# Altium footprint library TO_package.PcbLib: 10 footprints
Each footprint in its own frame and in the unit in brackets; x right, y up, seen from the top. Pads: shape width x height; smd on the part's side, far side on the other; paste and mask are expansions set on the pad; w line width, h text height; cw(c..) or ccw(c..) is an arc to the next point about the centre after c.
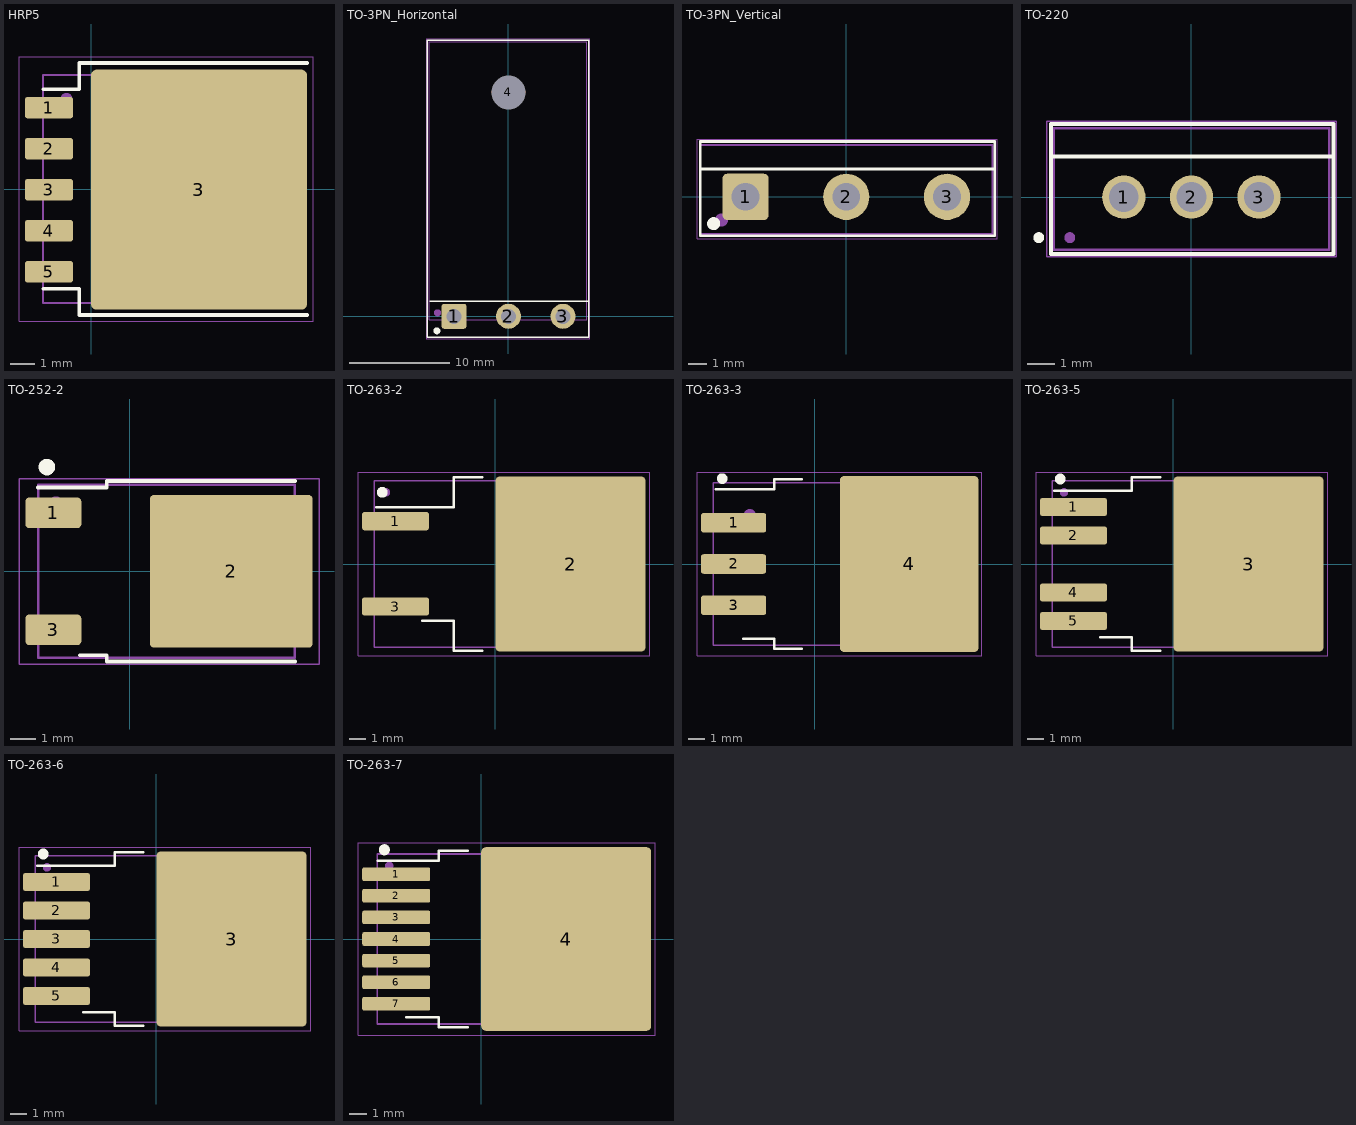
[diagram p0: the footprints below, top view; thin cyan lines are the x and y axes]

## HRP5 [mm]
pads (6):
  rrect25% 2x0.9 smd: 1(-1.751,3.391) 2(-1.751,1.681) 3(-1.751,-0.029) 4(-1.751,-1.739) 5(-1.751,-3.449)
  rrect5% 9x10 smd: 3(4.499,-0.029)
Top Overlay:
  lines w0.15: -1.986,-4.158 -0.486,-4.158 -0.486,-5.25 9,-5.25 ; -1.986,4.158 -0.486,4.158 -0.486,5.25 9,5.25
Top Assembly:
  circle w0.25: c-1.025,3.75 r0.125
  lines w0.1: -2,-4.75 8.5,-4.75 8.5,4.75 -2,4.75 -2,-4.75
  text ".Designator" at -4.998,-0.333 h1
Top Courtyard (Mech15):
  lines w0.05: -3,-5.5 9.25,-5.5 9.25,5.5 -3,5.5 -3,-5.5
3D body "Компонент 1.STEP": height 1.91, standoff 0, extent -2.023,-4.797 8.517,4.797

## TO-3PN_Horizontal [mm]
pads (4):
  rrect20% 2.5x2.5 hole 1.5: 1(-5.45,0)
  round 2.5 hole 1.5: 2(0,0) 3(5.45,0)
  oval 3.4x1.524 hole 3.4 unplated: 4(0,22.4)
Top Overlay:
  lines w0.15: -7.875,1.5 8.025,1.5 ; -8.15,-2.1 8.025,-2.1 8.025,27.6 -8.15,27.6 -8.15,-2.1
  lines w0.5: -7.075,-1.45 cw(c-7.175,-1.45) -7.075,-1.441
Top Assembly:
  circle w0.5: c-7.1,0.35 r0.1
  lines w0.1: -7.95,-0.35 7.85,-0.35 7.85,27.45 -7.95,27.45 -7.95,-0.35
  text ".Designator" at -4.998,-0.333 h1
Top Courtyard (Mech15):
  lines w0.05: -8.25,-2.275 8.15,-2.275 8.15,27.75 -8.25,27.75 -8.25,-2.275
3D body "User Library-TO-3PN_HOR_TOP.step": height 4.9, standoff -3.4, extent -7.9,-0.425 7.9,27.4

## TO-3PN_Vertical [mm]
pads (3):
  rrect20% 2.5x2.5 hole 1.5: 1(-5.45,0)
  round 2.5 hole 1.5: 2(0,0) 3(5.45,0)
Top Overlay:
  lines w0.15: -7.875,1.5 8.025,1.5 ; -7.9,-2.1 8.025,-2.1 8.025,3 -7.9,3 -7.9,-2.1
  lines w0.5: -7.075,-1.45 cw(c-7.175,-1.45) -7.075,-1.441
Top Assembly:
  circle w0.5: c-6.75,-1.25 r0.1
  lines w0.1: -7.9,-2 7.9,-2 7.9,2.8 -7.9,2.8 -7.9,-2
  text ".Designator" at -4.998,-0.333 h1
Top Courtyard (Mech15):
  lines w0.05: -8.075,-2.275 8.15,-2.275 8.15,3.125 -8.075,3.125 -8.075,-2.275
3D body "User Library-TO-3PN_2.STEP": height 23.9, standoff -9.5, extent -7.9,-2 7.9,2.801

## TO-220 [mm]
pads (3):
  round 1.6 hole 1.1: 1(-2.5,0) 2(0,0) 3(2.5,0)
Top Overlay:
  circle w0.2: c-5.65,-1.5 r0.1
  lines w0.15: -5.2,1.5 5.25,1.5 ; -5.2,-2.1 -5.2,2.7 5.25,2.7 5.25,-2.1 -5.2,-2.1
Top Assembly:
  circle w0.2: c-4.5,-1.5 r0.1
  lines w0.1: -5.1,-1.95 5.1,-1.95 5.1,2.55 -5.1,2.55 -5.1,-1.95
  text ".Designator" at -4.998,-0.333 h1
Top Courtyard (Mech15):
  lines w0.05: -5.35,-2.2 -5.35,2.8 5.35,2.8 5.35,-2.2 -5.35,-2.2
3D body "regulator TO-220.step": height 22.5, standoff -6.5, extent -5.1,-1.851 5.1,2.65

## TO-252-2 [mm] "DPAK"
height 2.4
pads (3):
  rrect25% 2.2x1.2 smd: 1(-3,2.3) 3(-3,-2.3)
  rrect5% 6.4x6 smd: 2(4,0)
Top Overlay:
  circle w0.4: c-3.25,4.1 r0.125
  lines w0.15: -3.6,3.3 -0.9,3.3 -0.9,3.55 6.5,3.55 ; -1.95,-3.3 -0.9,-3.3 -0.9,-3.55 6.5,-3.55
Top Assembly:
  circle w0.25: c-2.899,2.7 r0.125
  lines w0.1: -3.6,-3.4 -3.6,3.4 6.502,3.4 6.502,-3.4 -3.6,-3.4
  text ".Designator" at -4.998,-0.333 h1
Top Courtyard (Mech15):
  lines w0.05: -4.35,-3.65 -4.35,3.65 7.45,3.65 7.45,-3.65 -4.35,-3.65
3D body "User Library-DPAK_TO-252AA.step": height 2.37, standoff -0.03, extent -3.598,-3.367 6.502,3.367

## TO-263-2 [mm] "D2PAK"
height 4.65
pads (3):
  rrect25% 4x1.1 smd: 1(-6,2.57) 3(-6,-2.55)
  rrect5% 9x10.5 smd: 2(4.5,0)
Top Overlay:
  circle w0.4: c-6.8,4.3 r0.125
  lines w0.15: -7.15,3.4 -2.5,3.4 -2.5,5.2 -0.8,5.2 ; -4.4,-3.4 -2.5,-3.4 -2.5,-5.2 -0.8,-5.2
Top Assembly:
  circle w0.25: c-6.575,4.3 r0.125
  lines w0.1: -7.276,-5 8.394,-5 8.394,5 -7.276,5 -7.276,-5
  text ".Designator" at -4.998,-0.333 h1
Top Courtyard (Mech15):
  lines w0.05: -8.25,-5.5 -8.25,5.5 9.25,5.5 9.25,-5.5 -8.25,-5.5
3D body "TO263-3S.STEP": height 4.78, standoff -0.02, extent -7.276,-5 8.394,5

## TO-263-3 [mm] "TO263-7 (D2Pak, 7-Pads)"
height 4.6
pads (4):
  rrect25% 4x1.2 smd: 1(-5,2.54) 2(-5,0) 3(-5,-2.54)
  rrect5% 8.5x10.8 smd: 4(5.8,0)
Top Overlay:
  circle w0.4: c-5.7,5.25 r0.125
  lines w0.15: -6.1,4.6 -2.5,4.6 -2.5,5.2 -0.8,5.2 ; -4.4,-4.6 -2.5,-4.6 -2.5,-5.2 -0.8,-5.2
Top Assembly:
  circle w0.75: c-4,3 r0.001
  lines w0.1: -6.25,-5 9.447,-5 9.447,5 -6.25,5 -6.25,-5
  text ".Designator" at -4.998,-0.333 h1
Top Courtyard (Mech15):
  lines w0.05: -7.25,-5.65 10.25,-5.65 10.25,5.65 -7.25,5.65 -7.25,-5.65
3D body "User Library-TO263-3.STEP": height 4.83, standoff 0.03, extent -6.24,-5 9.43,5

## TO-263-5 [mm]
height 4.65
pads (5):
  rrect25% 4x1.1 smd: 1(-6,3.42) 2(-6,1.71) 4(-6,-1.71) 5(-6,-3.42)
  rrect5% 9x10.5 smd: 3(4.5,0)
Top Overlay:
  circle w0.4: c-6.8,5.1 r0.125
  lines w0.15: -7.15,4.4 -2.5,4.4 -2.5,5.2 -0.8,5.2 ; -4.4,-4.4 -2.5,-4.4 -2.5,-5.2 -0.8,-5.2
Top Assembly:
  circle w0.25: c-6.575,4.3 r0.125
  lines w0.1: -7.276,-5 8.394,-5 8.394,5 -7.276,5 -7.276,-5
  text ".Designator" at -4.998,-0.333 h1
Top Courtyard (Mech15):
  lines w0.05: -8.25,-5.5 -8.25,5.5 9.25,5.5 9.25,-5.5 -8.25,-5.5
3D body "TO263-5S.STEP": height 4.93, standoff 0.13, extent -7.276,-5 8.394,5

## TO-263-6 [mm]
height 4.65
pads (6):
  rrect25% 4x1.1 smd: 1(-6,3.42) 2(-6,1.71) 3(-6,0) 4(-6,-1.71) 5(-6,-3.42)
  rrect5% 9x10.5 smd: 3(4.5,0)
Top Overlay:
  circle w0.4: c-6.8,5.1 r0.125
  lines w0.15: -7.15,4.4 -2.5,4.4 -2.5,5.2 -0.8,5.2 ; -4.4,-4.4 -2.5,-4.4 -2.5,-5.2 -0.8,-5.2
Top Assembly:
  circle w0.25: c-6.575,4.3 r0.125
  lines w0.1: -7.276,-5 -7.276,5 8.394,5 8.394,-5 -7.276,-5
  text ".Designator" at -4.998,-0.333 h1
Top Courtyard (Mech15):
  lines w0.05: -8.25,-5.5 9.25,-5.5 9.25,5.5 -8.25,5.5 -8.25,-5.5
3D body "TO263-5S.STEP": height 4.93, standoff 0.13, extent -7.276,-5 8.394,5

## TO-263-7 [mm] "TO263-7 (D2Pak, 7-Pads)"
height 4.6
pads (8):
  rrect25% 4x0.8 smd: 1(-5,3.81) 2(-5,2.54) 3(-5,1.27) 4(-5,0) 5(-5,-1.27) 6(-5,-2.54) 7(-5,-3.81)
  rrect5% 10x10.8 smd: 4(5,0)
Top Overlay:
  circle w0.4: c-5.7,5.25 r0.125
  lines w0.15: -6.1,4.6 -2.5,4.6 -2.5,5.2 -0.8,5.2 ; -4.4,-4.6 -2.5,-4.6 -2.5,-5.2 -0.8,-5.2
Top Assembly:
  circle w0.25: c-5.416,4.3 r0.125
  lines w0.1: -6.117,-5 9.553,-5 9.553,5 -6.117,5 -6.117,-5
  text ".Designator" at -4.998,-0.333 h1
Top Courtyard (Mech15):
  lines w0.05: -7.25,-5.65 10.25,-5.65 10.25,5.65 -7.25,5.65 -7.25,-5.65
3D body "TO263-7-1.STEP": height 4.83, standoff 0.03, extent -6.117,-5 9.553,5